# Altium footprint library USBridge.PcbLib: 26 footprints (part 1 of 2)
Each footprint in its own frame and in the unit in brackets; x right, y up, seen from the top. Pads: shape width x height; smd on the part's side, far side on the other; paste and mask are expansions set on the pad; w line width, h text height; cw(c..) or ccw(c..) is an arc to the next point about the centre after c.
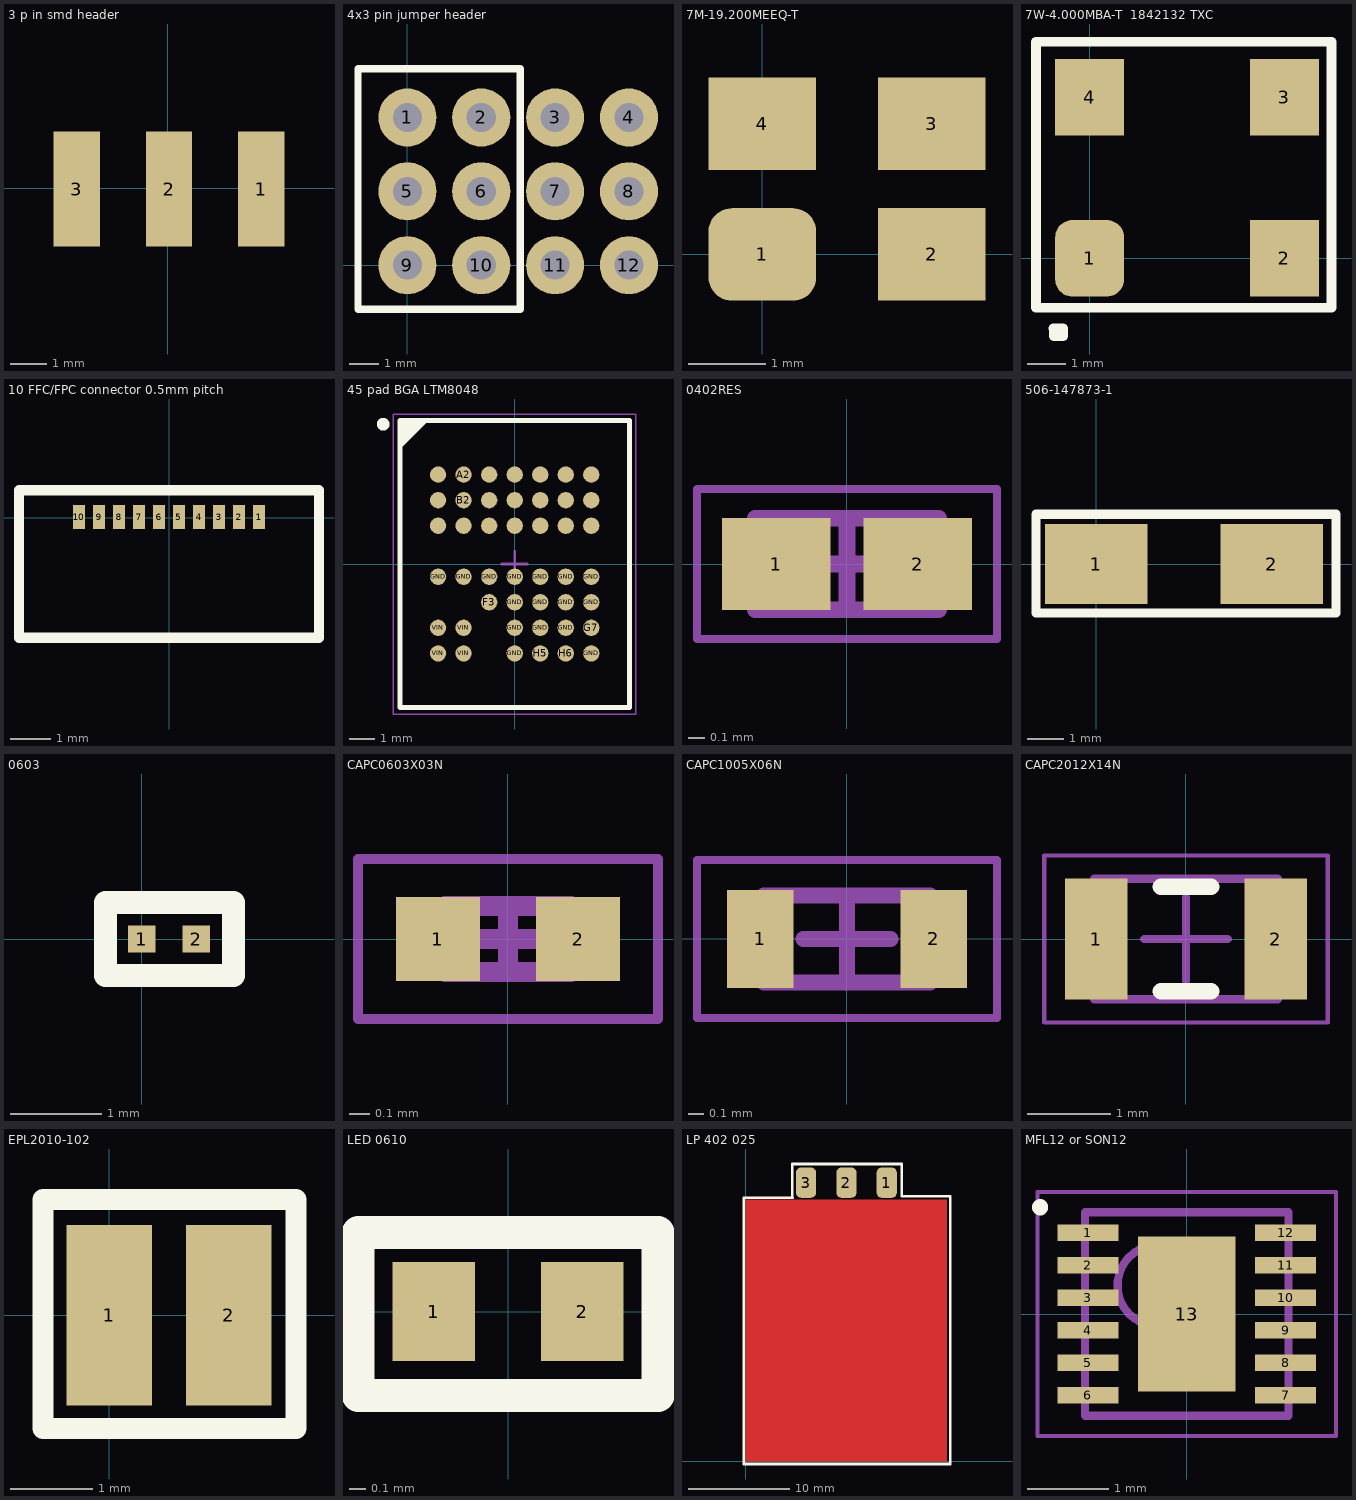
[diagram p0: the footprints below, top view; thin cyan lines are the x and y axes]

## 3 p in smd header [mm] "TSM-103-01-L-SH"
pads (3):
  rect 1.27x3.18 smd: 1(2.57,-0.02) 2(0.03,-0.02) 3(-2.51,-0.02)

## 4x3 pin jumper header [mm]
height 8
pads (12):
  round 2 hole 1: 1(0,5.08) 2(2.54,5.08) 3(5.08,5.08) 4(7.62,5.08) 5(0,2.54) 6(2.54,2.54) 7(5.08,2.54) 8(7.62,2.54) 9(0,0) 10(2.54,0) 11(5.08,0) 12(7.62,0)
Top Overlay:
  lines w0.254: -1.7,-1.52 3.88,-1.52 3.88,6.76 -1.7,6.76 -1.7,-1.52

## 7M-19.200MEEQ-T [mm] "Crystal 19.2MHz"
pads (4):
  rrect50% 1.4x1.2 all layers, no hole: 1(0,0)
  rect 1.4x1.2 all layers, no hole: 2(2.2,0) 3(2.2,1.7) 4(0,1.7)
3D body: height 0.7, standoff 0, extent -0.5,-0.4 2.7,2.1

## 7W-4.000MBA-T  1842132 TXC [mm] "4MHz clock"
pads (4):
  rrect50% 1.8x2 / inner rrect50% 1.5x3.3 / far side rrect50% 0x0 all layers, no hole: 1(0,0)
  rect 1.8x2 / inner rrect50% 1.5x3.3 / far side rrect50% 0x0 all layers, no hole: 2(5.08,0) 3(5.08,4.2) 4(0,4.2)
Top Overlay:
  lines w0.254: -0.95,-1.83 -0.79,-1.83 -0.94,-1.83 ; -0.94,-2.03 -0.94,-1.83 ; -0.94,-2.03 -0.94,-1.83 ; -0.94,-2.03 -0.69,-2.03 -0.69,-1.83 -0.94,-1.83 ; -1.4,-1.29 6.31,-1.29 6.31,5.65 -1.4,5.65 -1.4,-1.29
3D body: height 1, standoff 0, extent -1.22,-1.15 6.13,5.43

## 10 FFC/FPC connector 0.5mm pitch [mm] "HIROSE(HRS)  FH34SRJ-10S-0.5SH(50)  CONNECTOR, FFC/FPC, RCPT, 10POS, 1ROW"
pads (10):
  rect 0.3x0.6 smd: 1(2.25,0.02) 2(1.75,0.02) 3(1.25,0.02) 4(0.75,0.02) 5(0.25,0.02) 6(-0.25,0.02) 7(-0.75,0.02) 8(-1.25,0.02) 9(-1.75,0.02) 10(-2.25,0.02)
Top Overlay:
  lines w0.254: -3.75,-3 3.75,-3 3.75,0.69 -3.75,0.69 -3.75,-3

## 45 pad BGA LTM8048 [mm] "LTM8048 isolated µModule DC/DC Converter   with LDO Post Regulator"
height 5.12
pads (45):
  round 0.64 smd: A2(-2,3.5) B2(-2,2.5) F3(-1,-1.5) G7(3,-2.5) GND(-3,-0.5) GND(-2,-0.5) GND(-1,-0.5) GND(0,-3.5) GND(0,-2.5) GND(0,-1.5) GND(0,-0.5) GND(1,-2.5) GND(1,-1.5) GND(1,-0.5) GND(2,-2.5) GND(2,-1.5) GND(2,-0.5) GND(3,-3.5) GND(3,-1.5) GND(3,-0.5) H5(1,-3.5) H6(2,-3.5) VIN(-3,-3.5) VIN(-3,-2.5) VIN(-2,-3.5) VIN(-2,-2.5) VOUT1(2,1.5) VOUT1(2,2.5) VOUT1(2,3.5) VOUT1(3,1.5) VOUT1(3,2.5) VOUT1(3,3.5) VOUT2(-3,1.5) VOUT2(-3,2.5) VOUT2(-3,3.5) VOUT2(-2,1.5) VOUT-(-1,1.5) VOUT-(-1,2.5) VOUT-(-1,3.5) VOUT-(0,1.5) VOUT-(0,2.5) VOUT-(0,3.5) VOUT-(1,1.5) VOUT-(1,2.5) VOUT-(1,3.5)
Top Overlay:
  circle w0.25: c-5.15,5.475 r0.125
  region: -3.5,5.625 -4.5,4.625 -4.5,5.625
  lines w0.2: -4.5,4.625 -3.5,5.625 ; -4.5,-5.625 4.5,-5.625 4.5,5.625 -4.5,5.625 -4.5,-5.625
Mechanical 13:
  lines w0.1: -4.5,-5.625 4.5,-5.625 4.5,5.625 -4.5,5.625 -4.5,-5.625
Mechanical 15:
  lines w0.05: -4.75,-5.875 4.75,-5.875 4.75,5.875 -4.75,5.875 -4.75,-5.875
  lines w0.1: -0.5,0 0.5,0 ; 0,-0.5 0,0.5
3D body: height 5.12, standoff 0.5, extent -4.5,-5.625 4.5,5.625

## 0402RES [mm] "Chip Resistor, 2-Leads, Body 1.00x0.50mm, IPC Medium Density"
height 0.4
pads (2):
  rect 0.65x0.55 smd: 1(-0.425,0) 2(0.425,0)
Mechanical 13:
  lines w0.1: -0.55,-0.275 0.55,-0.275 0.55,0.275 -0.55,0.275 -0.55,-0.275
Mechanical 15:
  lines w0.05: -0.9,-0.45 0.9,-0.45 0.9,0.45 -0.9,0.45 -0.9,-0.45
  lines w0.1: -0.275,0 0.275,0 ; 0,-0.275 0,0.275
3D body: height 0.4, standoff 0, extent 0.3,-0.275 0.55,0.275
3D body: height 0.4, standoff 0, extent -0.55,-0.275 -0.3,0.275
3D body: height 0.4, standoff 0, extent -0.3,-0.275 0.3,0.275

## 506-147873-1 [mm] "SPST switch (N.O. ,momentary on)"
height 5
pads (2):
  rect 2.8x2.2 / inner rrect50% 1.5x3.3 / far side rrect50% 0x0 all layers, no hole: 1(0,0) 2(4.8,0)
Top Overlay:
  lines w0.254: -1.65,-1.34 6.56,-1.34 6.56,1.36 -1.65,1.36 -1.65,-1.34
3D body: height 3, standoff 0, extent -1.51,-1.22 6.38,1.21
3D body: height 5, standoff 3, extent 0.315,-0.475 4.555,0.465

## 0603 [mm] "0603 metric pad"
height 1
pads (2):
  rect 0.3x0.3 / inner rrect50% 1.5x3.3 / far side rrect50% 0x0 all layers, no hole: 1(0,0) 2(0.6,0)
Top Overlay:
  lines w0.254: -0.4,-0.4 1.01,-0.4 1.01,0.4 -0.4,0.4 -0.4,-0.4
3D body: height 1, standoff 0, extent -0.27,-0.27 0.88,0.27

## CAPC0603X03N [mm] "Chip Capacitor, 2-Leads, Body 0.60x0.30mm, IPC Medium Density"
height 0.33
pads (2):
  rect 0.42x0.42 smd: 1(-0.35,0) 2(0.35,0)
Mechanical 13:
  lines w0.1: -0.315,-0.165 -0.315,0.165 0.315,0.165 0.315,-0.165 -0.315,-0.165
Mechanical 15:
  lines w0.05: -0.75,-0.4 -0.75,0.4 0.75,0.4 0.75,-0.4 -0.75,-0.4
  lines w0.1: -0.165,0 0.165,0 ; 0,-0.165 0,0.165
3D body: height 0.33, standoff 0, extent -0.215,-0.165 0.215,0.165
3D body: height 0.33, standoff 0, extent -0.315,-0.165 -0.215,0.165
3D body: height 0.33, standoff 0, extent 0.215,-0.165 0.315,0.165

## CAPC1005X06N [mm] "Chip Capacitor, 2-Leads, Body 1.00x0.50mm, IPC Medium Density"
height 0.55
pads (2):
  rect 0.42x0.62 smd: 1(-0.55,0) 2(0.55,0)
Mechanical 13:
  lines w0.1: -0.525,-0.275 -0.525,0.275 0.525,0.275 0.525,-0.275 -0.525,-0.275
Mechanical 15:
  lines w0.05: -0.95,-0.5 -0.95,0.5 0.95,0.5 0.95,-0.5 -0.95,-0.5
  lines w0.1: -0.275,0 0.275,0 ; 0,-0.275 0,0.275
3D body: height 0.55, standoff 0, extent -0.425,-0.275 0.425,0.275
3D body: height 0.55, standoff 0, extent -0.525,-0.275 -0.425,0.275
3D body: height 0.55, standoff 0, extent 0.425,-0.275 0.525,0.275

## CAPC2012X14N [mm] "Chip Capacitor, 2-Leads, Body 2.00x1.25mm, IPC Medium Density"
height 1.45
pads (2):
  rect 0.75x1.45 smd: 1(-1.075,0) 2(1.075,0)
Top Overlay:
  lines w0.2: -0.3,-0.625 0.3,-0.625 ; -0.3,0.625 0.3,0.625
Mechanical 13:
  lines w0.1: -1.1,-0.725 -1.1,0.725 1.1,0.725 1.1,-0.725 -1.1,-0.725
Mechanical 15:
  lines w0.05: -1.7,-1 -1.7,1 1.7,1 1.7,-1 -1.7,-1
  lines w0.1: -0.5,0 0.5,0 ; 0,-0.5 0,0.5
3D body: height 1.45, standoff 0, extent -0.9,-0.725 0.9,0.725
3D body: height 1.45, standoff 0, extent -1.1,-0.725 -0.9,0.725
3D body: height 1.45, standoff 0, extent 0.9,-0.725 1.1,0.725

## EPL2010-102 [mm] "1uH SMD inductor EPL2010-102"
pads (2):
  rect 1.04x2.2 smd: 1(0,0) 2(1.45,0)
Top Overlay:
  lines w0.254: -0.81,-1.38 -0.81,1.41 -0.73,1.41 2.27,1.41 2.27,-1.38 -0.81,-1.38
3D body: height 1.05, standoff 0, extent -0.7,-1.3 2.21,1.3

## LED 0610 [mm]
pads (2):
  rect 0.5x0.6 smd: 1(-0.45,0) 2(0.45,0)
Top Overlay:
  lines w0.2: -0.91,-0.51 -0.91,-0.1 -0.91,0.48 -0.118,0.48 0.688,0.48 0.91,0.48 0.91,-0.51 -0.91,-0.51
3D body: height 0.2, standoff 0, extent -0.8,-0.41 0.81,0.38

## LP 402 025 [mm] "BAK Battery 165mAh"
height 4
pads (3):
  rrect50% 2x3 all layers, no hole: 1(14,27.65) 2(10,27.65) 3(6,27.65)
Top Layer:
  rectangle: 0,0 20,26
Top Overlay:
  lines w0.254: -0.19,-0.26 -0.19,26.16 4.68,26.16 4.64,26.2 4.64,29.5 15.3,29.5 15.47,29.5 15.47,26.3 20.31,26.3 20.31,-0.26 -0.19,-0.26
3D body: height 3.9, standoff 0.1, extent 0,0 20,26

## MFL12 or SON12 [mm] "MIC23250-AAYMT Adjustable dual dc - dc converter"
height 0.55
pads (13):
  rect 0.75x0.2 smd: 1(-1.215,1) 2(-1.215,0.6) 3(-1.215,0.2) 4(-1.215,-0.2) 5(-1.215,-0.6) 6(-1.215,-1) 7(1.215,-1) 8(1.215,-0.6) 9(1.215,-0.2) 10(1.215,0.2) 11(1.215,0.6) 12(1.215,1)
  rect 1.2x1.9 smd: 13(0,0)
Top Overlay:
  circle w0.1: c-1.802,1.312 r0.05
Mechanical 13:
  circle w0.1: c-0.35,0.35 r0.5
  lines w0.1: -1.25,-1.25 1.25,-1.25 1.25,1.25 -1.25,1.25 -1.25,-1.25
Mechanical 15:
  lines w0.05: -1.835,-1.5 1.835,-1.5 1.835,1.5 -1.835,1.5 -1.835,-1.5
  lines w0.1: -0.5,0 0.5,0 ; 0,-0.5 0,0.5
3D body: height 0.55, standoff 0.05, extent -1.25,-1.25 1.25,1.25